# Altium schematic symbol library Passive.SchLib: 18 symbols
Pins are listed as number, name and electrical type; pins without a type are passive.

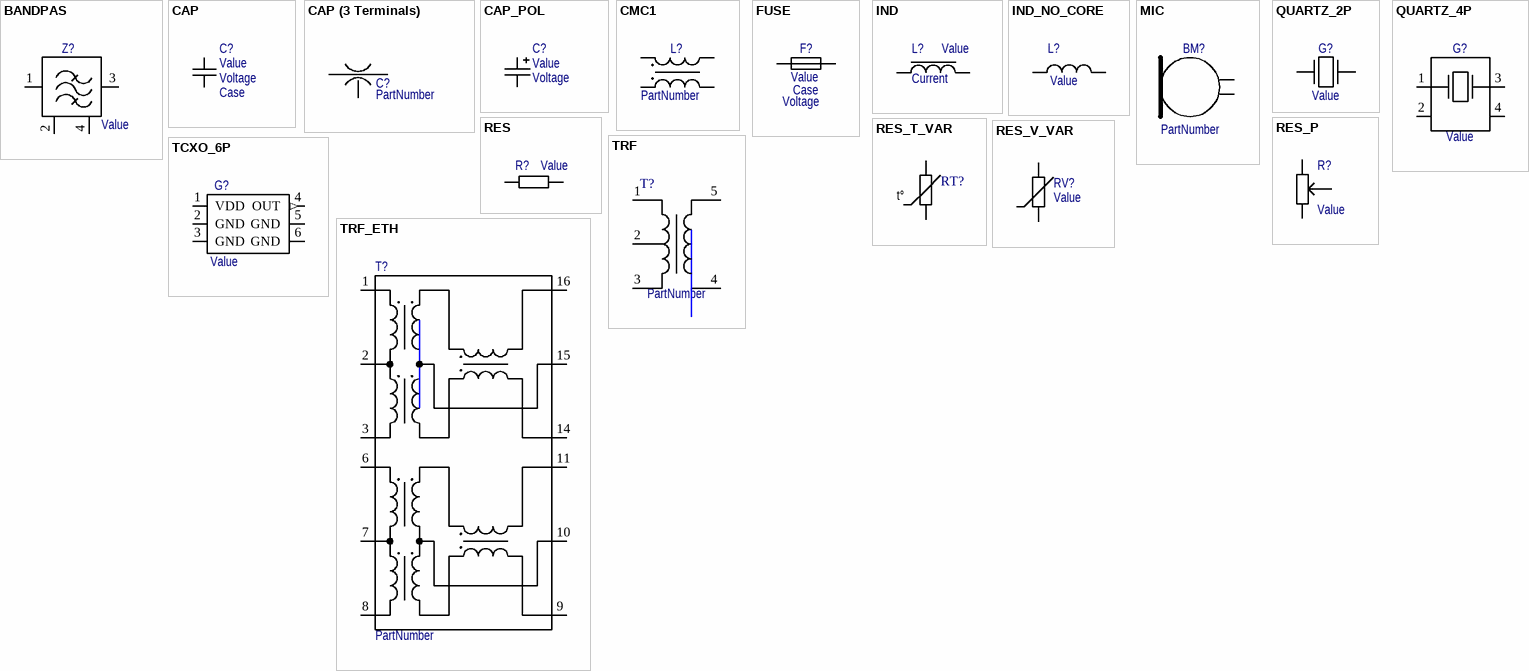
[diagram p0: symbols BANDPAS to TRF_ETH]

## BANDPAS
designator Z?  (value not drawn)
Crystal 4 pins; Value: Value
pins: 1, 2, 3, 4

## CAP
designator C?  (value not drawn)
=Case+" "+Value+" "+Tolerance+" "+Voltage+" "+Type; Case: Case; Voltage: Voltage; Value: Value
pins: 1, 2

## CAP (3 Terminals)
designator C?  (value not drawn)
EMI фильтр емкостной; Parameter 1: *; PartNumber: PartNumber
pins: 1 Input, 2 GND, 3 Output

## CAP_POL
designator C?  (value not drawn)
Поляризованный конденсатор (1 пин - плюс); Case: Case; Value: Value; Voltage: Voltage
pins: 1, 2

## CMC1
designator L?  (value not drawn)
PartNumber: PartNumber
pins: 1, 2, 3, 4

## FUSE
designator F?  (value not drawn)
Предохранитель; Voltage: Voltage; Case: Case; Value: Value
pins: 1, 2

## IND
designator L?  (value not drawn)
INDUCTOR; Tolerance: Tolerance; Current: Current; Value: Value
pins: 1, 2

## IND_NO_CORE
designator L?  (value not drawn)
INDUCTOR; Tolerance: Tolerance; Value: Value
pins: 1, 2

## MIC
designator BM?  (value not drawn)
Microphone symbol; PartNumber: PartNumber
pins: 1, 2

## QUARTZ_2P
designator G?  (value not drawn)
crystall 2 pins; Value: Value
pins: 1, 2

## QUARTZ_4P
designator G?  (value not drawn)
Crystal 4 pins; Value: Value
pins: 1, 2, 3, 4

## RES
designator R?  (value not drawn)
RESISTOR symbol; Tolerance: Tolerance; Power: Power; Value: Value
pins: 1, 2

## RES_P
designator R?  (value not drawn)
Tolerance: Tolerance; Power: Power; Value: Value
pins: 1 2, 2, 3 1

## RES_T_VAR
designator RT?  (value not drawn)
pins: 1, 2
text: t°

## RES_V_VAR
designator RV?  (value not drawn)
VARISTOR; Value: Value
pins: 1, 2

## TCXO_6P
designator G?, comment QUARTZ_4P  (value not drawn)
Crystal 4 pins; Value: Value
pins: 1 VDD (power), 2 GND (power), 3 GND (power), 4 OUT (out), 5 GND (power), 6 GND (power)

## TRF
designator T?  (value not drawn)
Universal transformator; PartNumber: PartNumber
pins: 1 TD+, 2 TCT, 3 TD-, 4 TX-, 5 TX+

## TRF_ETH
designator T?  (value not drawn)
Ethernet magnetics symbol; PartNumber: PartNumber
pins: 1 TD+, 2 TCT, 3 TD-, 6 RD+, 7 RCT, 8 RD-, 9 RX-, 10 CMT, 11 RX+, 14 TX-, 15 CMT, 16 TX+